# EAGLE library part STM32F100C6T6B (library ST Microelectronics)
ARM-based 32-bit MCU
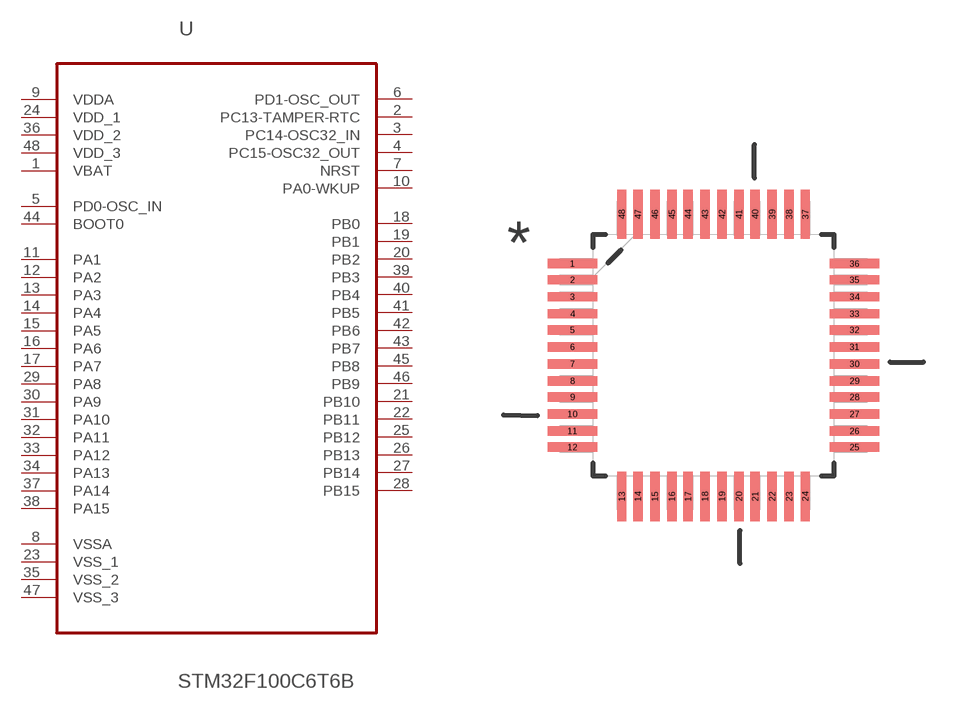
[diagram p318: symbol with the pads of QFP50P900X900X160-48N; footprint QFP50P900X900X160-48N]

Designator prefix U

## STM32F100C6T6B (MPN: STM32F100C6T6B; OC_FARNELL: 1838510; OC_NEWARK: 86R1310; PACKAGE: LQFP-48; SUPPLIER: STMircroelectronics)  [QFP50P900X900X160-48N]
1  VBAT  pwr
2  PC13-TAMPER-RTC
3  PC14-OSC32_IN
4  PC15-OSC32_OUT
5  PD0-OSC_IN  in
6  PD1-OSC_OUT  out
7  NRST
8  VSSA  pwr
9  VDDA  pwr
10  PA0-WKUP
11  PA1
12  PA2
13  PA3
14  PA4
15  PA5
16  PA6
17  PA7
18  PB0
19  PB1
20  PB2
21  PB10
22  PB11
23  VSS_1  pwr
24  VDD_1  pwr
25  PB12
26  PB13
27  PB14
28  PB15
29  PA8
30  PA9
31  PA10
32  PA11
33  PA12
34  PA13
35  VSS_2  pwr
36  VDD_2  pwr
37  PA14
38  PA15
39  PB3
40  PB4
41  PB5
42  PB6
43  PB7
44  BOOT0  in
45  PB8
46  PB9
47  VSS_3  pwr
48  VDD_3  pwr

## Footprint QFP50P900X900X160-48N (pad centres in mm)
smd 1.473 x 0.279: 1 -4.216,2.743; 2 -4.216,2.261; 3 -4.216,1.753; 4 -4.216,1.245; 5 -4.216,0.762; 6 -4.216,0.254; 7 -4.216,-0.254; 8 -4.216,-0.762; 9 -4.216,-1.245; 10 -4.216,-1.753; 11 -4.216,-2.261; 12 -4.216,-2.743; 25 4.216,-2.743; 26 4.216,-2.261; 27 4.216,-1.753; 28 4.216,-1.245; 29 4.216,-0.762; 30 4.216,-0.254; 31 4.216,0.254; 32 4.216,0.762; 33 4.216,1.245; 34 4.216,1.753; 35 4.216,2.261; 36 4.216,2.743
smd 0.279 x 1.473: 13 -2.743,-4.216; 14 -2.261,-4.216; 15 -1.753,-4.216; 16 -1.245,-4.216; 17 -0.762,-4.216; 18 -0.254,-4.216; 19 0.254,-4.216; 20 0.762,-4.216; 21 1.245,-4.216; 22 1.753,-4.216; 23 2.261,-4.216; 24 2.743,-4.216; 37 2.743,4.216; 38 2.261,4.216; 39 1.753,4.216; 40 1.245,4.216; 41 0.762,4.216; 42 0.254,4.216; 43 -0.254,4.216; 44 -0.762,4.216; 45 -1.245,4.216; 46 -1.753,4.216; 47 -2.261,4.216; 48 -2.743,4.216